# Altium schematic symbol library Pulser.SCHLIB: 21 symbols
Pins are listed as number, name and electrical type; pins without a type are passive.

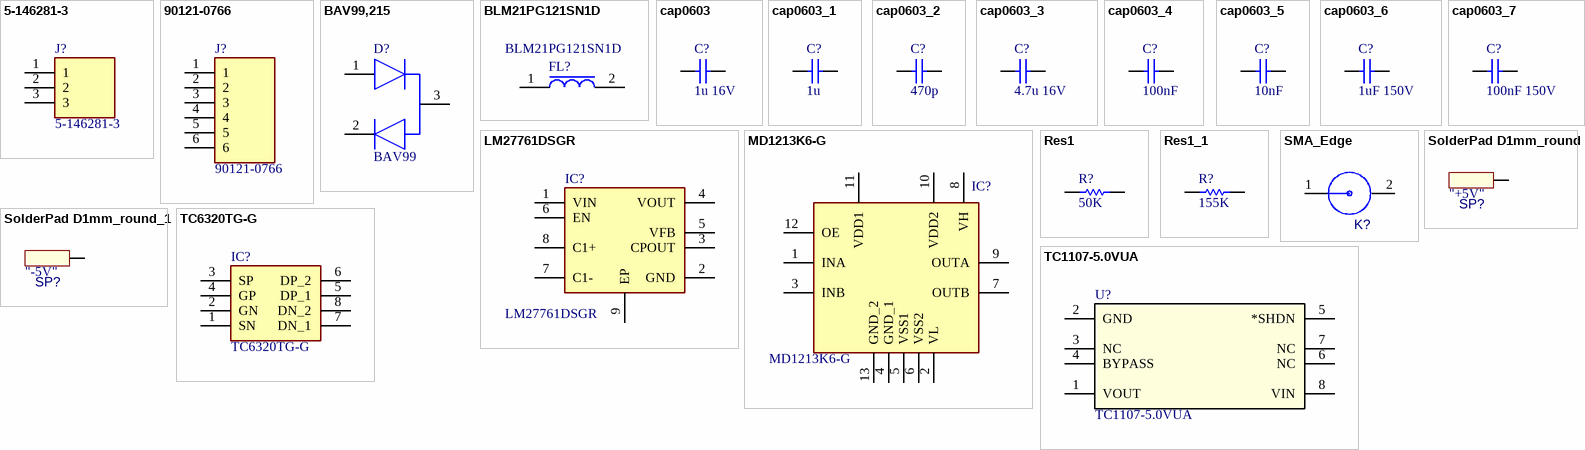
[diagram p0: symbols 5-146281-3 to TC6320TG-G]

## 5-146281-3
designator J?
Connector; Manufacturer_Name: TE Connectivity; Datasheet Link: http://www.te.com/commerce/DocumentDelivery/DDEController?Action=showdoc&DocId=Customer+Drawing%7F146281%7FG2%7Fpdf%7FEnglish%7FENG_CD_146281_G2.pdf%7F5-146281-3; Height: 8.69mm; Manufacturer_Part_Number: 5-146281-3; Mouser Part Number: 571-5-146281-3; Mouser Price/Stock: https://www.mouser.co.uk/ProductDetail/TE-Connectivity/5-146281-3?qs=bwpFY26eRVc0RlLXOkMSNw%3D%3D; Arrow Part Number: 5-146281-3; Arrow Price/Stock: https://www.arrow.com/en/products/5-146281-3/te-connectivity
footprint HDRV3W96P0X254_1X3_721X234X869P
pins: 1, 2, 3

## 90121-0766
designator J?
Connector; Manufacturer_Name: Molex; Datasheet Link: http://www.molex.com/webdocs/datasheets/pdf/en-us/0901210766_PCB_HEADERS.pdf; Height: 4mm; Manufacturer_Part_Number: 90121-0766; Mouser Part Number: 538-90121-0766; Mouser Price/Stock: https://www.mouser.co.uk/ProductDetail/Molex/90121-0766?qs=PvP5v7EimslgD6hQyHQ2Ag%3D%3D
footprint 901210766
pins: 1, 2, 3, 4, 5, 6

## BAV99,215
designator D?, comment BAV99
Diode; Manufacturer_Name: Nexperia; Manufacturer_Part_Number: BAV99,215; Datasheet Link: https://assets.nexperia.com/documents/data-sheet/BAV99_SER.pdf; Height: 1.1mm; Mouser Part Number: 771-BAV99-T/R; Mouser Price/Stock: https://www.mouser.co.uk/ProductDetail/Nexperia/BAV99215?qs=me8TqzrmIYWbN0bCKV3n5w%3D%3D; Arrow Part Number: BAV99,215; Arrow Price/Stock: https://www.arrow.com/en/products/bav99215/nexperia?region=nac
footprint BAV99215
pins: 1 B, 2 E, 3 C

## BLM21PG121SN1D
designator FL?
Filter; Manufacturer_Name: Murata Electronics; Datasheet Link: https://www.murata.com/en-us/products/productdetail?partno=BLM21PG121SN1%23; Height: 1.05mm; Manufacturer_Part_Number: BLM21PG121SN1D; Mouser Part Number: 81-BLM21PG121SN1D; Mouser Price/Stock: https://www.mouser.co.uk/ProductDetail/Murata-Electronics/BLM21PG121SN1D?qs=MY6wChARw2zaR3kESBLGTQ%3D%3D; Arrow Part Number: BLM21PG121SN1D; Arrow Price/Stock: https://www.arrow.com/en/products/blm21pg121sn1d/murata-manufacturing?region=nac
footprint BLM21AG102BH1J
pins: 1, 2

## cap0603
designator C?  value 1u 16V  (hidden comment: cap0603)
Capacitor  0603 inch; Published: 8-Jun-2000; LatestRevisionDate: 17-Jul-2002; LatestRevisionNote: Re-released for DXP Platform.; PackageReference: RAD-0.3; Publisher: Altium Limited; PackageDescription: Radial Cap, Thru-Hole; 2 Leads; 0.3 in Pin Spacing
signal-integrity model Cap
footprint SM0603 _3D_cap (standard  0603 inch size)
footprint SM0603 _3D_cap
pins: 1, 2

## cap0603_1
designator C?, comment value 1u  (hidden comment: cap0603)
Capacitor  0603 inch; Published: 8-Jun-2000; LatestRevisionDate: 17-Jul-2002; LatestRevisionNote: Re-released for DXP Platform.; PackageReference: RAD-0.3; Publisher: Altium Limited; PackageDescription: Radial Cap, Thru-Hole; 2 Leads; 0.3 in Pin Spacing
signal-integrity model Cap
footprint SM0603 _3D_cap (standard  0603 inch size)
footprint SM0603 _3D_cap
pins: 1, 2

## cap0603_2
designator C?, comment value 470p  (hidden comment: cap0402)
Capacitor  0402 inch; Published: 8-Jun-2000; LatestRevisionDate: 17-Jul-2002; LatestRevisionNote: Re-released for DXP Platform.; PackageReference: RAD-0.3; Publisher: Altium Limited; PackageDescription: Radial Cap, Thru-Hole; 2 Leads; 0.3 in Pin Spacing
signal-integrity model Cap
footprint SM0603 _3D_cap (standard  0603 inch size)
footprint 0402_C
pins: 1, 2

## cap0603_3
designator C?, comment value 4.7u 16V  (hidden comment: cap0603)
Capacitor  0603 inch; Published: 8-Jun-2000; LatestRevisionDate: 17-Jul-2002; LatestRevisionNote: Re-released for DXP Platform.; PackageReference: RAD-0.3; Publisher: Altium Limited; PackageDescription: Radial Cap, Thru-Hole; 2 Leads; 0.3 in Pin Spacing
signal-integrity model Cap
footprint SM0603 _3D_cap (standard  0603 inch size)
footprint SM0603 _3D_cap
pins: 1, 2

## cap0603_4
designator C?, comment value 100nF  (hidden comment: cap0603)
Capacitor  0603 inch; Published: 8-Jun-2000; LatestRevisionDate: 17-Jul-2002; LatestRevisionNote: Re-released for DXP Platform.; PackageReference: RAD-0.3; Publisher: Altium Limited; PackageDescription: Radial Cap, Thru-Hole; 2 Leads; 0.3 in Pin Spacing
signal-integrity model Cap
footprint SM0603 _3D_cap (standard  0603 inch size)
footprint SM0603 _3D_cap
pins: 1, 2

## cap0603_5
designator C?, comment value 10nF  (hidden comment: cap0603)
Capacitor  0603 inch; Published: 8-Jun-2000; LatestRevisionDate: 17-Jul-2002; LatestRevisionNote: Re-released for DXP Platform.; PackageReference: RAD-0.3; Publisher: Altium Limited; PackageDescription: Radial Cap, Thru-Hole; 2 Leads; 0.3 in Pin Spacing
signal-integrity model Cap
footprint SM0603 _3D_cap (standard  0603 inch size)
footprint SM0603 _3D_cap
pins: 1, 2

## cap0603_6
designator C?, comment value 1uF 150V  (hidden comment: cap0603)
Capacitor  0603 inch; Published: 8-Jun-2000; LatestRevisionDate: 17-Jul-2002; LatestRevisionNote: Re-released for DXP Platform.; PackageReference: RAD-0.3; Publisher: Altium Limited; PackageDescription: Radial Cap, Thru-Hole; 2 Leads; 0.3 in Pin Spacing
signal-integrity model Cap
footprint C1206 (Chip Capacitor, Body 3.2x1.6mm, IPC High Density)
pins: 1, 2

## cap0603_7
designator C?, comment value 100nF 150V  (hidden comment: cap0603)
Capacitor  0603 inch; Published: 8-Jun-2000; LatestRevisionDate: 17-Jul-2002; LatestRevisionNote: Re-released for DXP Platform.; PackageReference: RAD-0.3; Publisher: Altium Limited; PackageDescription: Radial Cap, Thru-Hole; 2 Leads; 0.3 in Pin Spacing
signal-integrity model Cap
footprint C0805 (Chip Capacitor, Body 2.0x1.3mm, IPC High Density)
pins: 1, 2

## LM27761DSGR
designator IC?
Integrated Circuit; Manufacturer_Name: Texas Instruments; Datasheet Link: http://www.ti.com/lit/gpn/lm27761; Height: 0.8mm; Manufacturer_Part_Number: LM27761DSGR; Mouser Part Number: 595-LM27761DSGR; Mouser Price/Stock: https://www.mouser.co.uk/ProductDetail/Texas-Instruments/LM27761DSGR?qs=jK8VN%252BJp1h5rfPCO21nS4g%3D%3D; Arrow Part Number: LM27761DSGR; Arrow Price/Stock: https://www.arrow.com/en/products/lm27761dsgr/texas-instruments?region=nac
footprint SON50P200X200X80-9N
pins: 1 VIN, 2 GND, 3 CPOUT, 4 VOUT, 5 VFB, 6 EN, 7 C1-, 8 C1+, 9 EP

## MD1213K6-G
designator IC?
Integrated Circuit; Manufacturer_Name: Microchip; Datasheet Link: http://www.microchip.com/mymicrochip/filehandler.aspx?ddocname=en570148; Height: 1mm; Manufacturer_Part_Number: MD1213K6-G; Mouser Part Number: 689-MD1213K6-G; Mouser Price/Stock: https://www.mouser.co.uk/ProductDetail/Microchip-Technology/MD1213K6-G?qs=yzbL9BrvDmMQeiy2ctoE9A%3D%3D; Arrow Part Number: MD1213K6-G; Arrow Price/Stock: https://www.arrow.com/en/products/md1213k6-g/microchip-technology
footprint QFN80P400X400X100-13N-D
pins: 1 INA, 2 VL, 3 INB, 4 GND_1, 5 VSS1, 6 VSS2, 7 OUTB, 8 VH, 9 OUTA, 10 VDD2, 11 VDD1, 12 OE, 13 GND_2

## Res1
designator R?, comment 50K
Resistor; Value: 1K; Published: 8-Jun-2000; LatestRevisionDate: 17-Jul-2002; LatestRevisionNote: Re-released for DXP Platform.; PackageReference: AXIAL-0.3; Publisher: Altium Limited; PackageDescription: Axial Device, Thru-Hole; 2 Leads; 0.3 in Pin Spacing
simulation model RESISTOR (Resistor)
signal-integrity model Res
footprint 1608[0603] (Chip Capacitor, Body 1.6x0.8mm, IPC High Density)
pins: 1, 2

## Res1_1
designator R?, comment 155K
Resistor; Value: 1K; Published: 8-Jun-2000; LatestRevisionDate: 17-Jul-2002; LatestRevisionNote: Re-released for DXP Platform.; PackageReference: AXIAL-0.3; Publisher: Altium Limited; PackageDescription: Axial Device, Thru-Hole; 2 Leads; 0.3 in Pin Spacing
simulation model RESISTOR (Resistor)
signal-integrity model Res
footprint 1608[0603] (Chip Capacitor, Body 1.6x0.8mm, IPC High Density)
pins: 1, 2

## SMA_Edge
designator K?  (value not drawn)
Value: *
footprint AMPHENOL_132357-11
footprint AMPHENOL_132357-11
pins: 1, 2

## SolderPad D1mm_round
designator SP?  value "+5V"  (hidden comment: SolderPad D1mm_round)
for finger touch
footprint SolderPad_D1mm _round
pins: 1

## SolderPad D1mm_round_1
designator SP?, comment value "-5V"  (hidden comment: SolderPad D1mm_round)
for finger touch
footprint SolderPad_D1mm _round
pins: 1

## TC1107-5.0VUA
designator U?
No Description Available; Mfr_Name: Microchip; Copyright: Copyright (C) 2022 Ultra Librarian. All rights reserved.; Manufacturer_Part_Number: TC1107-5.0VUA; RefDes: RefDes; Type: DEV
footprint MSOP8_MC_MCH
footprint MSOP8_MC_MCH_
pins: 1 VOUT, 2 GND, 3 NC, 4 BYPASS, 5 *SHDN, 6 NC, 7 NC, 8 VIN

## TC6320TG-G
designator IC?
Integrated Circuit; Manufacturer_Name: Microchip; Datasheet Link: https://ww1.microchip.com/downloads/en/DeviceDoc/20005697A.pdf; Height: 1.75mm; Manufacturer_Part_Number: TC6320TG-G; Mouser Part Number: 689-TC6320TG-G; Mouser Price/Stock: https://www.mouser.co.uk/ProductDetail/Microchip-Technology/TC6320TG-G?qs=%252BgoAgGjL%252Bh4K5qliaxT5nQ%3D%3D; Arrow Part Number: TC6320TG-G; Arrow Price/Stock: https://www.arrow.com/en/products/tc6320tg-g/microchip-technology?region=nac
footprint SOIC127P600X175-8N
pins: 1 SN, 2 GN, 3 SP, 4 GP, 5 DP_1, 6 DP_2, 7 DN_1, 8 DN_2